# Altium footprint library ul_UX60SCMB5ST80.PcbLib: 1 footprints
Each footprint in its own frame and in the unit in brackets; x right, y up, seen from the top. Pads: shape width x height; smd on the part's side, far side on the other; paste and mask are expansions set on the pad; w line width, h text height; cw(c..) or ccw(c..) is an arc to the next point about the centre after c.
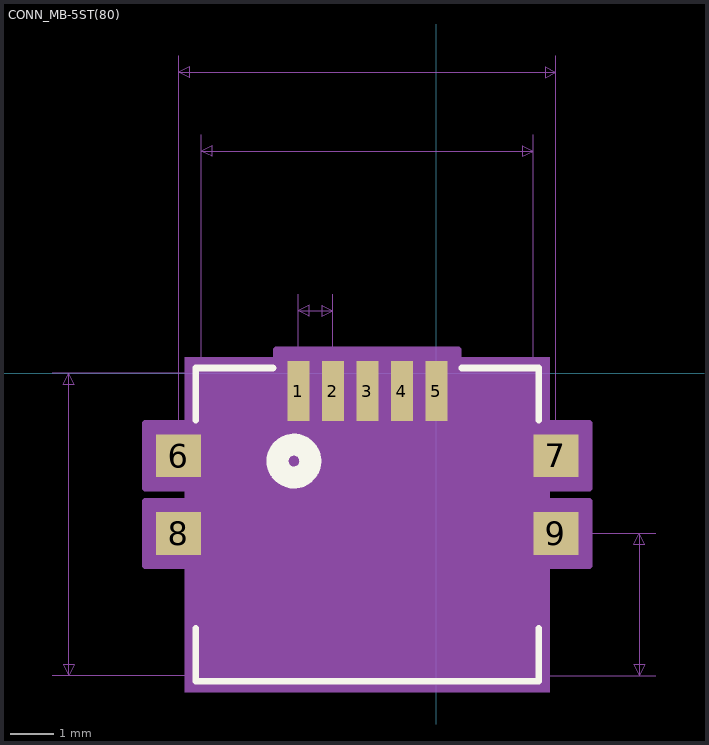
[diagram p0: the footprint, top view; thin cyan lines are the x and y axes]

## CONN_MB-5ST(80) [mil]
pads (9):
  rect 20x55 smd paste+0 mask+0: 1(-125.98,-16.1) 2(-94.49,-16.1) 3(-62.99,-16.1) 4(-31.5,-16.1) 5(0,-16.1)
  rect 41x39 smd: 6(-235.24,-75.2) 7(109.25,-75.2) 8(-235.24,-146.06) 9(109.25,-146.06)
Top Overlay:
  circle w20: c-130,-80 r15
  lines w6: -219.49,-232.6 -219.49,-281 93.51,-281 93.51,-232.6 ; -219.49,-42.6 -219.49,5 -149.08,5 ; 23.1,5 93.51,5 93.51,-42.6
Bottom Overlay:
  circle w20: c-130,-80 r15
Mechanical 5:
  region: -229.49,15 103.51,15 103.51,-291 -229.49,-291
Mechanical 7:
  lines w1: -350.68,-276 -214.49,-276 ; -350.68,0 -214.49,0 -214.49,218.12 ; -235.24,-75.2 -235.24,290.03 ; -125.98,-16.1 -125.98,72.31 ; -94.49,-16.1 -94.49,72.31 ; 88.51,-276 200.39,-276 ; 88.51,-146.06 200.39,-146.06 ; 88.51,0 88.51,218.12 ; 109.25,-75.2 109.25,290.03 ; -335.68,-276 -335.68,0 ; -335.68,-276 -340.68,-266 -330.68,-266 -335.68,-276 ; -335.68,0 -330.68,-10 -340.68,-10 -335.68,0 ; -235.24,275.03 109.25,275.03 ; -235.24,275.03 -225.24,280.03 -225.24,270.03 -235.24,275.03 ; -214.49,203.12 88.51,203.12 ; -214.49,203.12 -204.49,208.12 -204.49,198.12 -214.49,203.12 ; -125.98,57.31 -94.49,57.31 ; -125.98,57.31 -115.98,62.31 -115.98,52.31 -125.98,57.31 ; -94.49,57.31 -104.49,52.31 -104.49,62.31 -94.49,57.31 ; 88.51,203.12 78.51,198.12 78.51,208.12 88.51,203.12 ; 109.25,275.03 99.25,270.03 99.25,280.03 109.25,275.03 ; 185.39,-276 185.39,-146.06 ; 185.39,-276 180.39,-266 190.39,-266 185.39,-276 ; 185.39,-146.06 190.39,-156.06 180.39,-156.06 185.39,-146.06
  text "Default Padstyle: RX20Y55D0T" at -412.99,-426 h50
  text "1st Mtg Padstyle: RX41Y39D0T" at -412.99,-501 h50
  text "2nd Mtg Padstyle: RX41Y39D0T" at -412.99,-576 h50
  text "3rd Mtg Padstyle: EX70Y70D70P" at -425.49,-651 h50
  text "Left Mtg Padstyle: EX60Y60D30P" at -437.99,-726 h50
  text "Right Mtg Padstyle: EX60Y60D30P" at -450.49,-801 h50
  text "Alt Padstyle 1: OX60Y90D30P" at -400.49,-876 h50
  text "Alt Padstyle 2: OX90Y60D30P" at -400.49,-951 h50
  text "0.303in/7.696mm" at -156.74,223.12 h25
  text "0.276in/7.01mm" at -530.68,-150.5 h25
  text "0.031in/0.8mm" at -191.49,77.31 h25
  text "0.344in/8.75mm" at -150.49,295.03 h25
  text "0.13in/3.3mm" at 205.39,-223.53 h25
Mechanical 13:
  circle w20: c-170,-20 r15
  lines w1: -214.49,-276 88.51,-276 88.51,0 -214.49,0 -214.49,-276
Mechanical 15:
  region: 139.75,-45.7 98.51,-45.7 98.51,10 20,10 20,21.4 -145.98,21.4 -145.98,10 -224.49,10 -224.49,-45.7 -265.74,-45.7 -265.74,-104.7 -224.49,-104.7 -224.49,-116.56 -265.74,-116.56 -265.74,-175.56 -224.49,-175.56 -224.49,-286 98.51,-286 98.51,-175.56 139.75,-175.56 139.75,-116.56 98.51,-116.56 98.51,-104.7 139.75,-104.7
  lines w6: -265.74,-175.56 -265.74,-116.56 -224.49,-116.56 -224.49,-104.7 -265.74,-104.7 -265.74,-45.7 -224.49,-45.7 -224.49,10 -145.98,10 -145.98,21.4 20,21.4 20,10 98.51,10 98.51,-45.7 139.75,-45.7 139.75,-104.7 98.51,-104.7 98.51,-116.56 139.75,-116.56 139.75,-175.56 98.51,-175.56 98.51,-286 -224.49,-286 -224.49,-175.56 -265.74,-175.56
3D body: height 10, standoff 0, extent 0,0 10,10